# Altium schematic symbol library P1.SCHLIB: 4 symbols
Pins are listed as number, name and electrical type; pins without a type are passive.

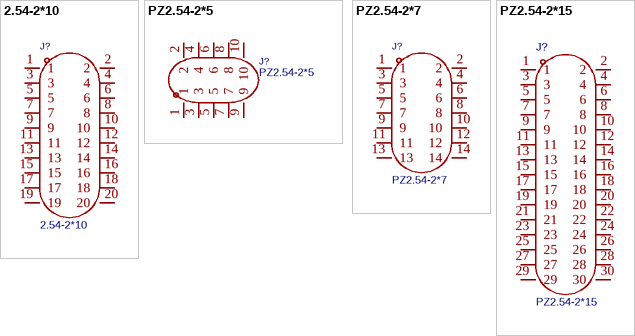
[diagram p0: symbols 2.54-2*10 to PZ2.54-2*15]

## 2.54-2*10
designator J?
Pin Structure:2x10P Pitch:2.54mm Row Spacing:2.54mm Circluar Pins/Square Pins:Pin Header Mounting Type:Through Hole Number of Rows:2 Number of Pins:20P Current Rating:2.5A Length of Mating Pin:6mm Insulation Height:2.54mm Length of End Connection Pin:3mm; Manufacturer: ZHOURI(洲日); AddInBom: yes; ModelId: 7b46918fe38e4962af531f5fab9490b0聨0819f05c4eef4c71ace90d822a990e87; ModelName: HDR-TH_20P-P2.54-V-M-R2-C10-S2.54-1; ModelTransform: 1000.3917,199.9996,0,0,0,0,0,0,-118.11; Pin Structure: 2x10P; Pitch: 2.54mm; Current Rating: 2.5A; Symbol: 2.54-2*10; Device: 2.54-2*10; Supplier: LCSC; Supplier Part: C5116480; Manufacturer Part: 2.54-2*10; JLCPCB Part Class: Extended Part; LCSC Part Name: 2x10P 间距:2.54mm 方针 直插; Supplier Footprint: 插件,P=2.54mm; Datasheet: https://item.szlcsc.com/datasheet/2.54-2*10/5692723.html; ConvertToPcb: yes; FootprintName: HDR-TH_20P-P2.54-V-M-R2-C10-S2.54; Row Spacing: 2.54mm; Circluar Pins/Square Pins: Pin Header; Mounting Type: Through Hole; Number of Rows: 2; Number of Pins: 20P; Length of Mating Pin: 6mm; Insulation Height: 2.54mm; Length of End Connection Pin: 3mm; Contact Material: Brass; Contact Plating: Gold; Operating Temperature: -40℃~+105℃
footprint HDR-TH_20P-P2.54-V-M-R2-C10-S2.54
pins: 1, 2, 3, 4, 5, 6, 7, 8, 9, 10, 11, 12, 13, 14, 15, 16, 17, 18, 19, 20

## PZ2.54-2*5
designator J?
Pin Structure:2x5P Pitch:2.54mm Row Spacing:2.54mm Circluar Pins/Square Pins:Pin Header Mounting Type:Through Hole Number of Rows:2 Number of Pins:10P Current Rating:2.5A Length of Mating Pin:6mm Insulation Height:2.54mm Length of End Connection Pin:3mm C; Manufacturer: ZHOURI(洲日); AddInBom: yes; ModelId: 3331c3365ac7443ebcf508130b63aeaa聨0819f05c4eef4c71ace90d822a990e87; ModelName: HDR2.54-M-LI-2X5P; ModelTransform: 499.999,200,0,0,0,0,0,0,-118.11; Pin Structure: 2x5P; Pitch: 2.54mm; Current Rating: 2.5A; Symbol: PZ2.54-2*5; Device: PZ2.54-2*5; Supplier: LCSC; Supplier Part: C5156677; Manufacturer Part: PZ2.54-2*5; JLCPCB Part Class: Extended Part; LCSC Part Name: 2x5P 间距:2.54mm 方针 直插; Supplier Footprint: 插件,P=2.54mm; Datasheet: https://item.szlcsc.com/datasheet/PZ2.54-2*5/5790846.html; ConvertToPcb: yes; FootprintName: HDR-TH_10P-P2.54-V-M-R2-C5-S2.54-1; Row Spacing: 2.54mm; Circluar Pins/Square Pins: Pin Header; Mounting Type: Through Hole; Number of Rows: 2; Number of Pins: 10P; Length of Mating Pin: 6mm; Insulation Height: 2.54mm; Length of End Connection Pin: 3mm; Contact Material: Brass; Contact Plating: Gold; Operating Temperature: -40℃~+105℃
footprint HDR-TH_10P-P2.54-V-M-R2-C5-S2.54-1
pins: 1, 2, 3, 4, 5, 6, 7, 8, 9, 10

## PZ2.54-2*7
designator J?
Pin Structure:2x7P Pitch:2.54mm Row Spacing:2.54mm Circluar Pins/Square Pins:Pin Header Mounting Type:Through Hole Number of Rows:2 Number of Pins:14P Current Rating:2.5A Length of Mating Pin:6mm Insulation Height:2.54mm Length of End Connection Pin:3mm C; Manufacturer: ZHOURI(洲日); AddInBom: yes; ModelId: 151825a91c7e446fb947889005d0ab0d聨0819f05c4eef4c71ace90d822a990e87; ModelName: HDR2.54-M-LI-2X7P; ModelTransform: 699.9986,200,0,0,0,0,0,0,-118.11; Pin Structure: 2x7P; Pitch: 2.54mm; Current Rating: 2.5A; Symbol: PZ2.54-2*7; Device: PZ2.54-2*7; Supplier: LCSC; Supplier Part: C5156678; Manufacturer Part: PZ2.54-2*7; JLCPCB Part Class: Extended Part; LCSC Part Name: 2x7P 间距:2.54mm 方针 直插; Supplier Footprint: 插件,P=2.54mm; Datasheet: https://item.szlcsc.com/datasheet/PZ2.54-2*7/5790847.html; ConvertToPcb: yes; FootprintName: HDR-TH_14P-P2.54-V-M-R2-C7-S2.54-1; Row Spacing: 2.54mm; Circluar Pins/Square Pins: Pin Header; Mounting Type: Through Hole; Number of Rows: 2; Number of Pins: 14P; Length of Mating Pin: 6mm; Insulation Height: 2.54mm; Length of End Connection Pin: 3mm; Contact Material: Brass; Contact Plating: Gold; Operating Temperature: -40℃~+105℃
footprint HDR-TH_14P-P2.54-V-M-R2-C7-S2.54-1
pins: 1, 2, 3, 4, 5, 6, 7, 8, 9, 10, 11, 12, 13, 14

## PZ2.54-2*15
designator J?
Pin Structure:2x15P Pitch:2.54mm Row Spacing:2.54mm Circluar Pins/Square Pins:Pin Header Mounting Type:Through Hole Number of Rows:2 Number of Pins:30P Current Rating:2.5A Length of Mating Pin:6mm Insulation Height:2.54mm Length of End Connection Pin:3mm; Manufacturer: ZHOURI(洲日); AddInBom: yes; ModelId: 20e3c55689c04fa0b6843741cd965711聨0819f05c4eef4c71ace90d822a990e87; ModelName: HDR-TH_30P-P2.54-V-M-R2-C15-S2.54-2; ModelTransform: 1500.036,196.85,0,0,0,0,0,0,-118.11; Pin Structure: 2x15P; Pitch: 2.54mm; Current Rating: 2.5A; Symbol: PZ2.54-2*15; Device: PZ2.54-2*15; LCSC Part Name: 2x15P 间距:2.54mm 方针 直插; SupplierPart: C5224013; ManufacturerPart: PZ2.54-2*15; Supplier Footprint: 插件,P=2.54mm; JLCPCB Part Class: Extended Part; Datasheet: https://item.szlcsc.com/datasheet/PZ2.54-2*15/5925192.html; Supplier: LCSC; ConvertToPcb: yes; FootprintName: HDR-TH_30P-P2.54-V-M-R2-C15-S2.54-2; Row Spacing: 2.54mm; Circluar Pins/Square Pins: Pin Header; Mounting Type: Through Hole; Number of Rows: 2; Number of Pins: 30P; Length of Mating Pin: 6mm; Insulation Height: 2.54mm; Length of End Connection Pin: 3mm; Contact Material: Brass; Contact Plating: Gold; Operating Temperature: -40℃~+105℃
footprint HDR-TH_30P-P2.54-V-M-R2-C15-S2.54-2
pins: 1, 2, 3, 4, 5, 6, 7, 8, 9, 10, 11, 12, 13, 14, 15, 16, 17, 18, 19, 20, 21, 22, 23, 24, 25, 26, 27, 28, 29, 30